# Altium schematic symbol library I2C_MUX.SchLib: 1 symbol
Pins are listed as number, name and electrical type; pins without a type are passive.

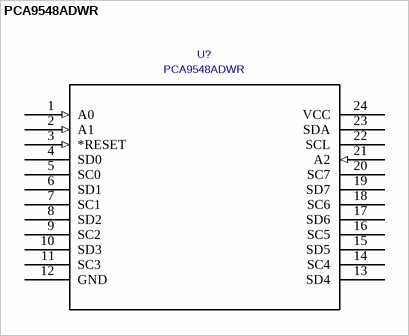
[diagram p0: symbol PCA9548ADWR]

## PCA9548ADWR
designator U?
Manufacturer: Texas Instruments; C: Copyright (C) 2015 Accelerated Designs. All rights reserved; Built_By: EMA_UL_Team; Value: PCA9548ADWR; Vendor: Texas Instruments; Manufacturer_Part_Number: PCA9548ADWR
pins: 1 A0 (in), 2 A1 (in), 3 *RESET (in), 4 SD0, 5 SC0, 6 SD1, 7 SC1, 8 SD2, 9 SC2, 10 SD3, 11 SC3, 12 GND (power), 13 SD4, 14 SC4, 15 SD5, 16 SC5, 17 SD6, 18 SC6, 19 SD7, 20 SC7, 21 A2 (in), 22 SCL, 23 SDA, 24 VCC (power)